# Altium integrated library NSL-32SR2S.IntLib: 1 symbol
Pins are listed as number, name and electrical type; pins without a type are passive.

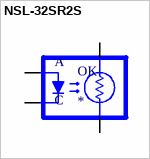
[diagram p0: symbol NSL-32SR2S]

## NSL-32SR2S
designator OK
Optoisolator Photocell Optocoupler 1 Channel; MF: Advanced Photonix; MP: NSL-32SR2S; Price: None; Value: *; Package: - Advanced Photonix; Availability: Unavailable; SnapEDA_Link: https://www.snapeda.com/parts/NSL-32SR2S/Advanced%20Photonix/view-part/2598365/?ref=snap
footprint NSL
pins: A, C1 PC1, C2 PC2, K C